# Altium schematic symbol library MEM_I2C_SOT23-5.Schlib: 1 symbol
Pins are listed as number, name and electrical type; pins without a type are passive.

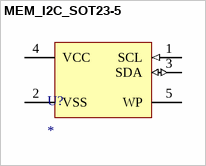
[diagram p0: symbol MEM_I2C_SOT23-5]

## MEM_I2C_SOT23-5
designator U?
pins: 1 SCL (in), 2 VSS, 3 SDA (io), 4 VCC, 5 WP